# Altium footprint library SMP-SPE-SMP_MSLD.PcbLib: 1 footprints
Each footprint in its own frame and in the unit in brackets; x right, y up, seen from the top. Pads: shape width x height; smd on the part's side, far side on the other; paste and mask are expansions set on the pad; w line width, h text height; cw(c..) or ccw(c..) is an arc to the next point about the centre after c.
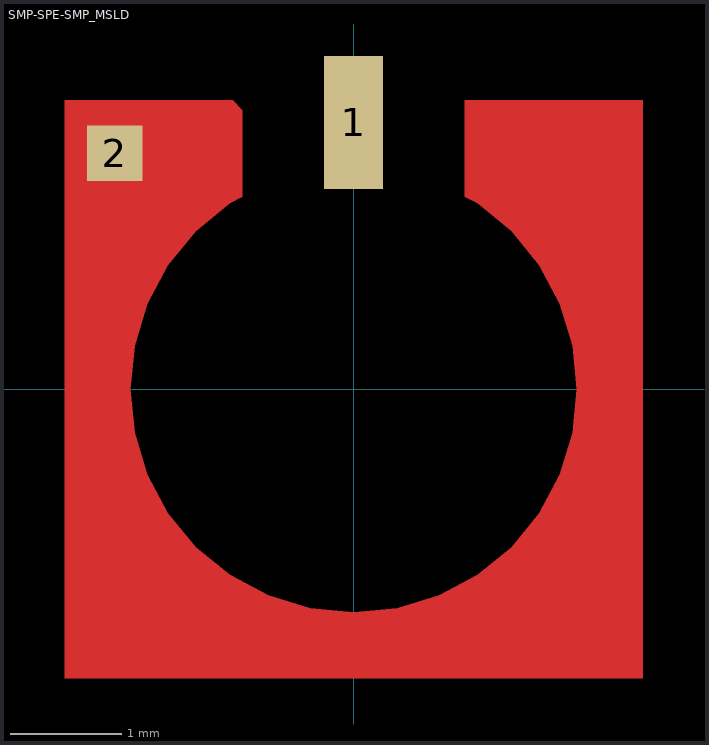
[diagram p0: the footprint, top view; thin cyan lines are the x and y axes]

## SMP-SPE-SMP_MSLD [mm] "SMP straight"
height 4.1
pads (2):
  rect 0.53x1.2 smd: 1(0,2.4)
  rect 0.5x0.5 smd paste+0 mask+0: 2(-2.15,2.125)
Top Layer:
  region: 2.6,-2.6 -2.6,-2.6 -2.6,2.6 -1.09,2.6 -1,2.51 -1.001,1.733 -1.117,1.671 -1.421,1.421 -1.671,1.117 -1.857,0.769 -1.971,0.392 -2.01,0 -1.971,-0.392 -1.857,-0.769 -1.671,-1.117 -1.421,-1.421 -1.117,-1.671 -0.769,-1.857 -0.392,-1.971 0,-2.01 0.392,-1.971 0.769,-1.857 1.117,-1.671 1.421,-1.421 1.671,-1.117 1.857,-0.769 1.971,-0.392 2.01,0 1.971,0.392 1.857,0.769 1.671,1.117 1.421,1.421 1.117,1.671 1.001,1.733 1,1.733 1,2.6 2.6,2.6
Top Paste:
  region: 2.6,-2.6 -2.6,-2.6 -2.6,2.6 -1.09,2.6 -1,2.51 -1.001,1.733 -1.117,1.671 -1.421,1.421 -1.671,1.117 -1.857,0.769 -1.971,0.392 -2.01,0 -1.971,-0.392 -1.857,-0.769 -1.671,-1.117 -1.421,-1.421 -1.117,-1.671 -0.769,-1.857 -0.392,-1.971 0,-2.01 0.392,-1.971 0.769,-1.857 1.117,-1.671 1.421,-1.421 1.671,-1.117 1.857,-0.769 1.971,-0.392 2.01,0 1.971,0.392 1.857,0.769 1.671,1.117 1.421,1.421 1.117,1.671 1.001,1.733 1,1.733 1,2.6 2.6,2.6
Top Solder:
  region: 2.734,-2.727 -2.727,-2.727 -2.727,2.734 -0.822,2.734 -0.822,1.715 -0.823,1.714 -1.061,1.587 -1.35,1.35 -1.587,1.061 -1.764,0.731 -1.873,0.372 -1.909,0 -1.873,-0.372 -1.764,-0.731 -1.587,-1.061 -1.35,-1.35 -1.061,-1.587 -0.731,-1.764 -0.372,-1.873 0,-1.909 0.372,-1.873 0.731,-1.764 1.061,-1.587 1.35,-1.35 1.587,-1.061 1.764,-0.731 1.873,-0.372 1.909,0 1.873,0.372 1.764,0.731 1.587,1.061 1.35,1.35 1.061,1.587 0.881,1.683 0.83,1.711 0.829,1.711 0.829,2.734 2.734,2.734
3D body: height 4.1, standoff 0.01, extent -2.558,-2.601 2.558,3.5